# EAGLE library part SOP-16-1.27 (library alvie)
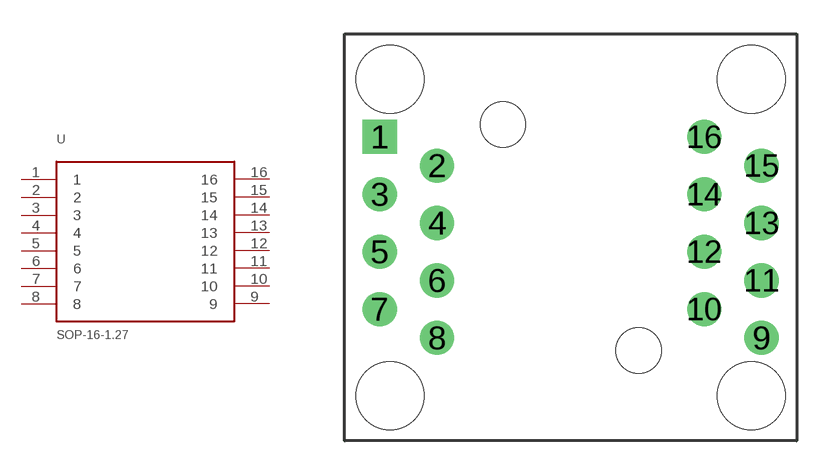
[diagram p73: symbol with the pads of SOP-16-1.27; footprint SOP-16-1.27]

Designator prefix -

## SOP-16-1.27  [SOP-16-1.27]
1  1  pas
2  2  pas
3  3  pas
4  4  pas
5  5  pas
6  6  pas
7  7  pas
8  8  pas
9  9  pas
10  10  pas
11  11  pas
12  12  pas
13  13  pas
14  14  pas
15  15  pas
16  16  pas

## Footprint SOP-16-1.27 (pad centres in mm)
drill 1 square: 1 -8.45,4.445
drill 1: 2 -5.91,3.175; 3 -8.45,1.905; 4 -5.91,0.635; 5 -8.45,-0.635; 6 -5.91,-1.905; 7 -8.45,-3.175; 8 -5.91,-4.445; 9 8.45,-4.445; 10 5.91,-3.175; 11 8.45,-1.905; 12 5.91,-0.635; 13 8.45,0.635; 14 5.91,1.905; 15 8.45,3.175; 16 5.91,4.445
hole 3 at -8,7
hole 3 at 8,7
hole 3 at -8,-7
hole 3 at 8,-7
hole 2 at -3,5
hole 2 at 3,-5